# Altium footprint library IC_Texas_Instruments_TPS62160DSGR_eec_0.PcbLib: 1 footprints
Each footprint in its own frame and in the unit in brackets; x right, y up, seen from the top. Pads: shape width x height; smd on the part's side, far side on the other; paste and mask are expansions set on the pad; w line width, h text height; cw(c..) or ccw(c..) is an arc to the next point about the centre after c.
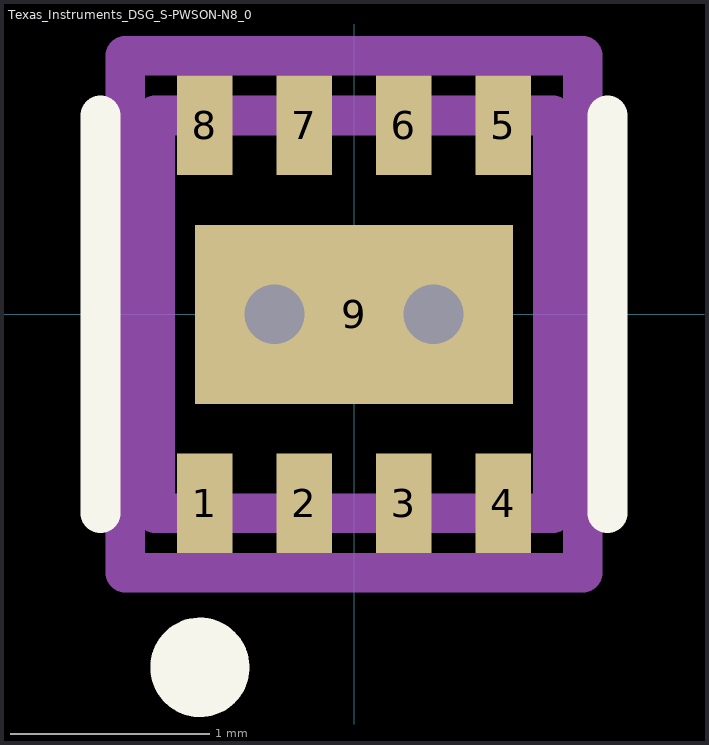
[diagram p0: the footprint, top view; thin cyan lines are the x and y axes]

## Texas_Instruments_DSG_S-PWSON-N8_0 [mm]
pads (9):
  rect 0.28x0.5 smd paste-1000 mask+0: 1(-0.75,-0.95) 2(-0.25,-0.95) 3(0.25,-0.95) 4(0.75,-0.95) 5(0.75,0.95) 6(0.25,0.95) 7(-0.25,0.95) 8(-0.75,0.95)
  rect 1.6x0.9 smd paste-1000 mask+0: 9(0,0)
via -0.4,0 diameter 0.6 hole 0.3
via 0.4,0 diameter 0.6 hole 0.3
Top Overlay:
  circle w0.25: c-0.775,-1.775 r0.125
  lines w0.2: -1.275,-1 -1.275,1 ; 1.275,-1 1.275,1
Top Paste:
  rectangle: -0.65,-0.35 0.65,0.35
  rectangle: -0.875,-1.2 -0.625,-0.7
  rectangle: -0.375,-1.2 -0.125,-0.7
  rectangle: 0.125,-1.2 0.375,-0.7
  rectangle: 0.625,-1.2 0.875,-0.7
  rectangle: -0.875,0.7 -0.625,1.2
  rectangle: -0.375,0.7 -0.125,1.2
  rectangle: 0.125,0.7 0.375,1.2
  rectangle: 0.625,0.7 0.875,1.2
Mechanical 10:
  lines w0.2: -1.15,-1.3 1.15,-1.3 1.15,1.3 -1.15,1.3 -1.15,-1.3
  text ".Designator" at 0,0.188 h1
Mechanical 12:
  lines w0.2: -1,-1 1,-1 1,1 -1,1 -1,-1
Mechanical 15:
  lines w0.1: -0.345,0 0.345,0 ; 0,-0.345 0,0.345
  lines w0.2: -1.15,-1.3 1.15,-1.3 1.15,1.3 -1.15,1.3 -1.15,-1.3
3D body "IC_Texas_Instruments_TPS62160DSGR_eec.STEP": height 0.25, standoff 0, extent -1.15,-1.3 1.15,1.3